# Altium footprint library ANTENOVA SR42W001.PCBLIB: 1 footprints
Each footprint in its own frame and in the unit in brackets; x right, y up, seen from the top. Pads: shape width x height; smd on the part's side, far side on the other; paste and mask are expansions set on the pad; w line width, h text height; cw(c..) or ccw(c..) is an arc to the next point about the centre after c.
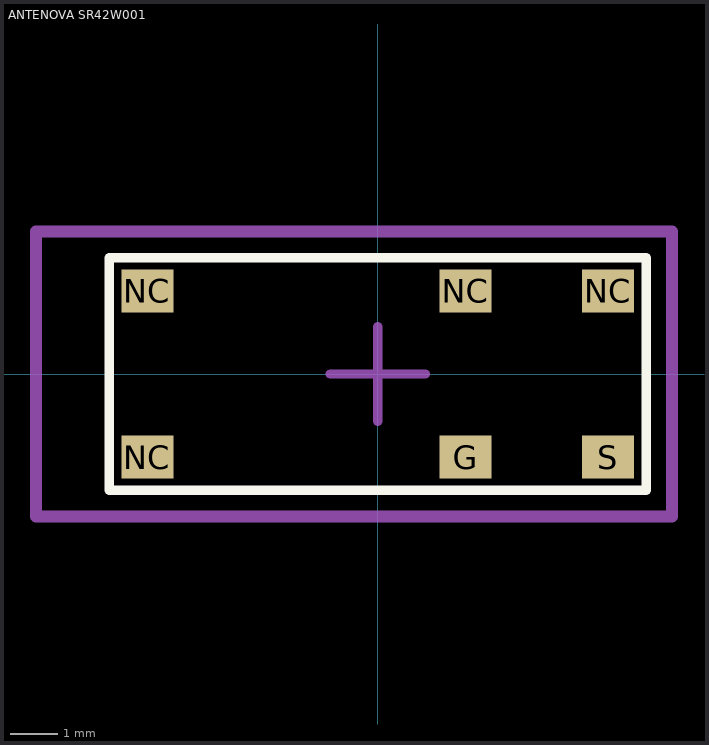
[diagram p0: the footprint, top view; thin cyan lines are the x and y axes]

## ANTENOVA SR42W001 [mm]
height 0.9
pads (6):
  rect 1.1x0.9 smd: G(1.85,-1.75) NC(-4.85,-1.75) NC(-4.85,1.75) NC(1.85,1.75) NC(4.85,1.75) S(4.85,-1.75)
Top Overlay:
  lines w0.2: -5.65,-2.45 -5.65,-1.75 -5.65,2.45 5.65,2.45 5.65,-2.45 -5.65,-2.45
Mechanical 15:
  lines w0.2: -1,0 1,0 ; 0,-1 0,1
  lines w0.254: -7.2,-3 6.2,-3 6.2,3 -7.2,3 -7.2,-3
3D body "Antenova SR42W001_Mutica.STEP": height 0.88, standoff 0, extent -5.65,-2.5 5.65,2.5